# EAGLE library part PANAPLEX_SP-101 (library SP101)
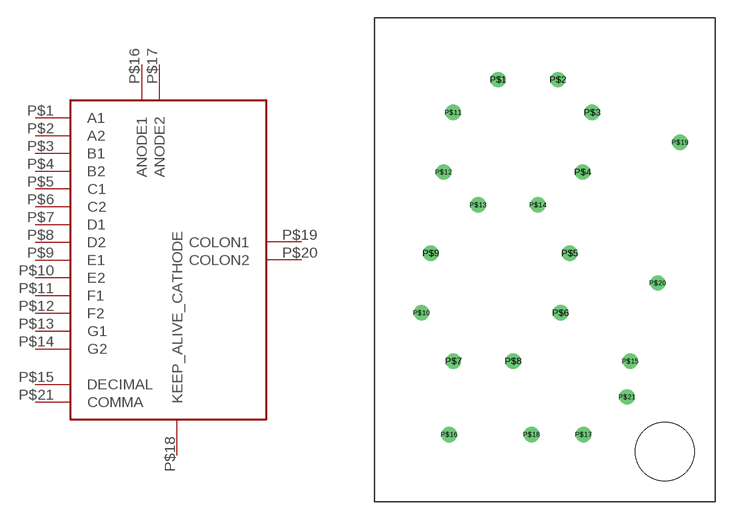
[diagram p0: symbol with the pads of PANAPLEX_SP-101; footprint PANAPLEX_SP-101]

Designator prefix -

## PANAPLEX_SP-101  [PANAPLEX_SP-101]
P$1  A1
P$2  A2
P$3  B1
P$4  B2
P$5  C1
P$6  C2
P$7  D1
P$8  D2
P$9  E1
P$10  E2
P$11  F1
P$12  F2
P$13  G1
P$14  G2
P$15  DECIMAL
P$16  ANODE1
P$17  ANODE2
P$18  KEEP_ALIVE_CATHODE
P$19  COLON1
P$20  COLON2
P$21  COMMA

## Footprint PANAPLEX_SP-101 (pad centres in mm)
drill 0.8: P$1 -3.378,10.668; P$2 1.702,10.668; P$3 4.623,7.874; P$4 3.81,2.794; P$5 2.718,-4.115; P$6 1.93,-9.195; P$7 -7.188,-13.31; P$8 -2.108,-13.31; P$9 -9.119,-4.115; P$10 -9.906,-9.195; P$11 -7.214,7.874; P$12 -8.026,2.794; P$13 -5.08,0; P$14 0,0; P$15 7.874,-13.31; P$16 -7.544,-19.558; P$17 3.886,-19.558; P$18 -0.533,-19.558; P$19 12.116,5.334; P$20 10.211,-6.655; P$21 7.595,-16.358
hole 5 at 10.82,-21.006